# Altium schematic symbol library Temp_Sensor_TI_TMP103.SchLib: 1 symbol
Pins are listed as number, name and electrical type; pins without a type are passive.

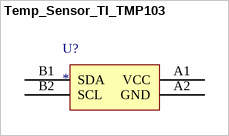
[diagram p0: symbol Temp_Sensor_TI_TMP103]

## Temp_Sensor_TI_TMP103
designator U?
pins: A1 VCC, A2 GND, B1 SDA, B2 SCL